# Altium schematic symbol library TPS55340QRTERQ1.SchLib: 1 symbol
Pins are listed as number, name and electrical type; pins without a type are passive.

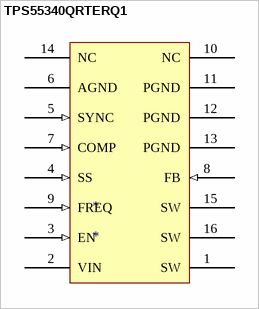
[diagram p0: symbol TPS55340QRTERQ1]

## TPS55340QRTERQ1
designator *
footprint TPS55340QRTERQ1 (Boost Switching Regulator IC Positive, Isolation Capable Adjustable 2.9V 1 Output 5.25A (Switch) 16-WFQFN Exposed Pad)
pins: 1 SW (power), 2 VIN (power), 3 EN (in), 4 SS (in), 5 SYNC (in), 6 AGND (power), 7 COMP (in), 8 FB (in), 9 FREQ (in), 10 NC, 11 PGND (power), 12 PGND (power), 13 PGND (power), 14 NC, 15 SW (power), 16 SW (power)